# Altium integrated library NREC004SABC-M30RC.IntLib: 1 symbol
Pins are listed as number, name and electrical type; pins without a type are passive.

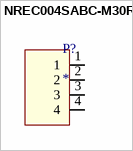
[diagram p0: symbol NREC004SABC-M30RC]

## NREC004SABC-M30RC
designator P?
CONN HEADER SMD 4POS 2.54MM / Manufacturer PN: NREC004SABC-M30RC
footprint NREC004SABC-M30RC
pins: 1, 2, 3, 4